# Altium footprint library Push Button Universal.PcbLib: 1 footprints
Each footprint in its own frame and in the unit in brackets; x right, y up, seen from the top. Pads: shape width x height; smd on the part's side, far side on the other; paste and mask are expansions set on the pad; w line width, h text height; cw(c..) or ccw(c..) is an arc to the next point about the centre after c.
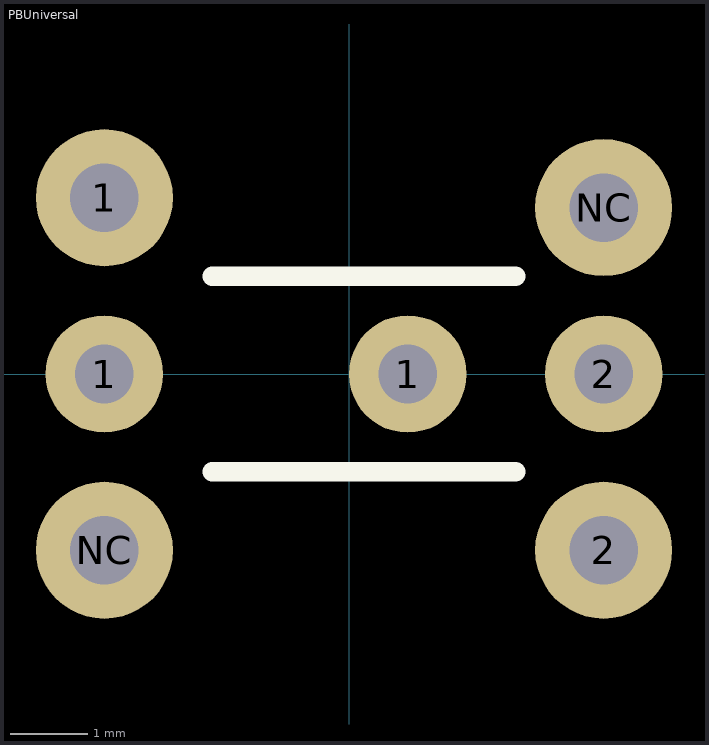
[diagram p0: the footprint, top view; thin cyan lines are the x and y axes]

## PBUniversal [mil]
pads (7):
  round 60 hole 30 square: 1(-125,0) 1(30,0)
  round 70 hole 35 square: 1(-125,90)
  round 70 hole 35: 2(130,-90) NC(-125,-90) NC(130,85)
  round 60 hole 30: 2(130,0)
Top Overlay:
  lines w10: -70,-50 85,-50 ; -70,50 85,50
3D body: height 197.72, standoff -137.71, extent -152.42,-118.7 152.42,118.71